# Altium footprint library PDU.PcbLib: 35 footprints (part 1 of 3)
Each footprint in its own frame and in the unit in brackets; x right, y up, seen from the top. Pads: shape width x height; smd on the part's side, far side on the other; paste and mask are expansions set on the pad; w line width, h text height; cw(c..) or ccw(c..) is an arc to the next point about the centre after c.
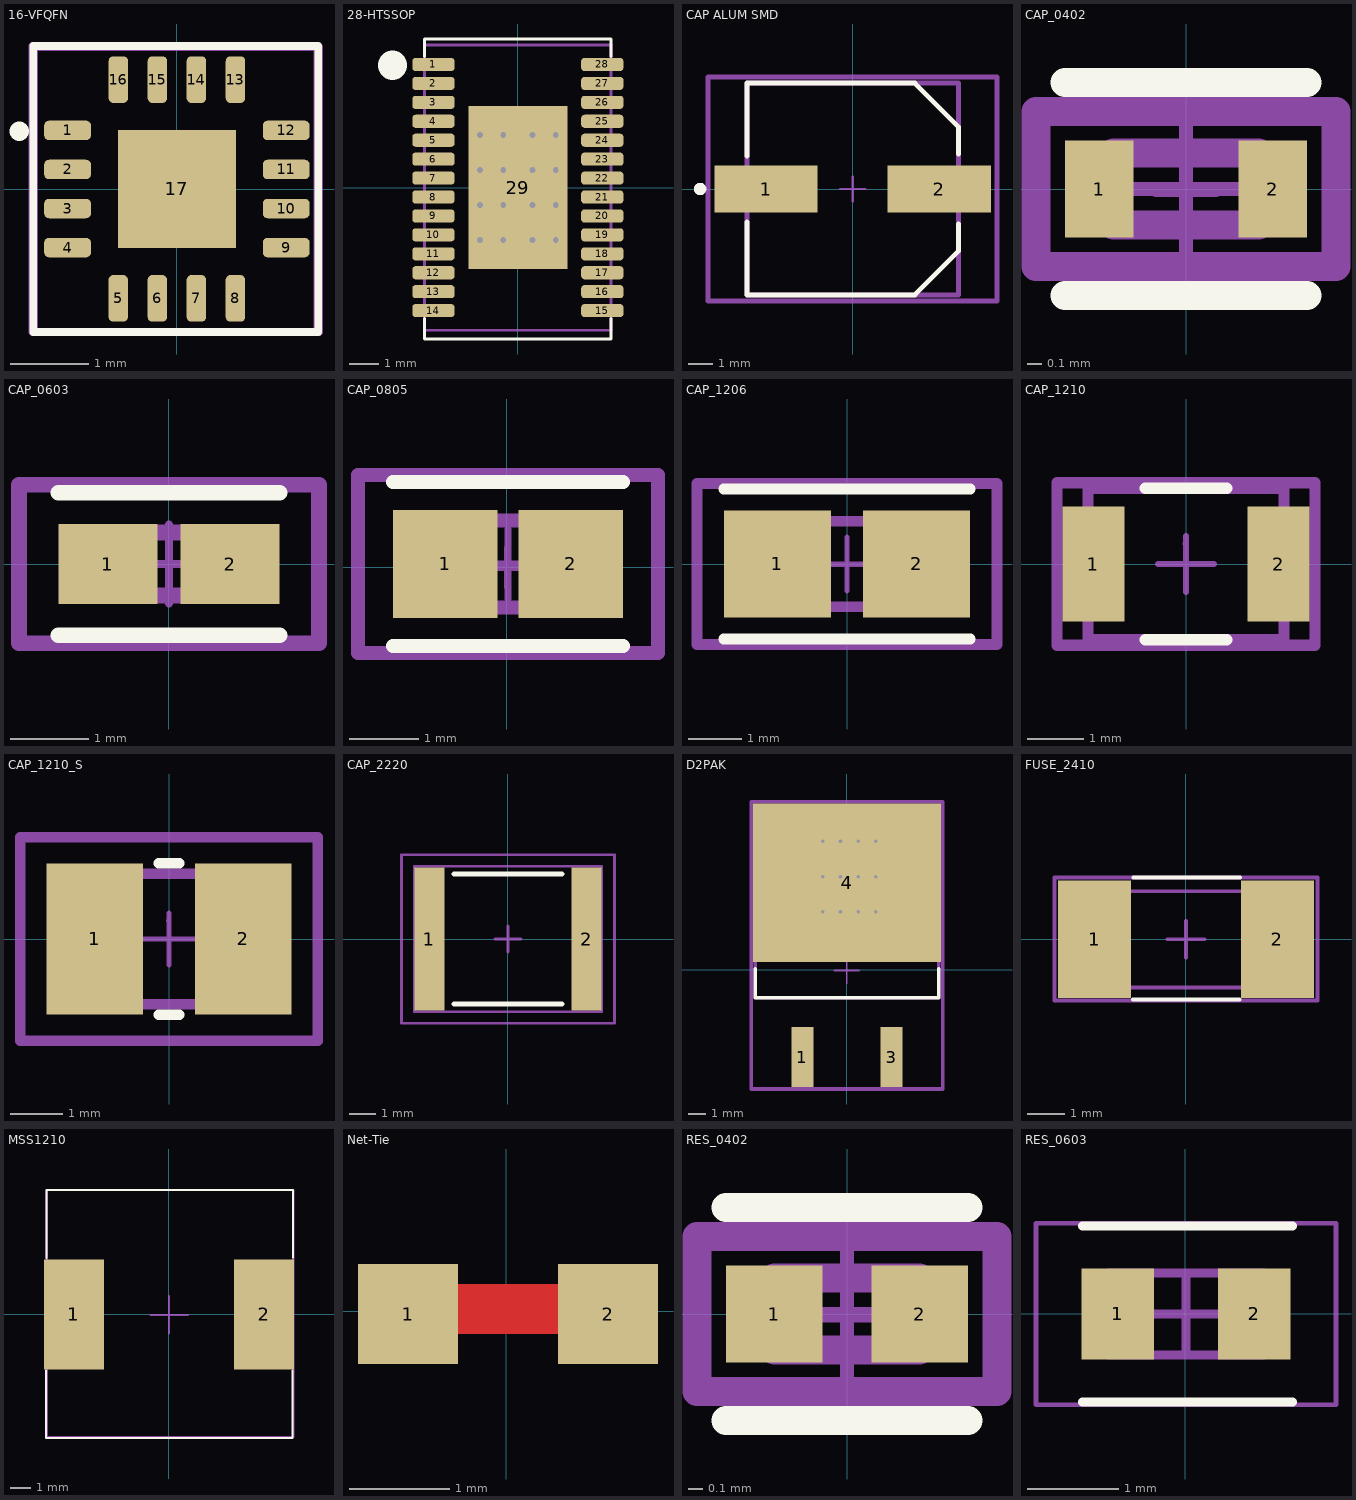
[diagram p0: the footprints below, top view; thin cyan lines are the x and y axes]

## 16-VFQFN [mm] "LM25139QRGTRQ1"
pads (17):
  rrect50% 0.6x0.25 smd paste-2539.97 mask+0.05: 1(-1.4,0.75) 2(-1.4,0.25) 3(-1.4,-0.25) 4(-1.4,-0.75) 9(1.4,-0.75) 10(1.4,-0.25) 11(1.4,0.25) 12(1.4,0.75)
  rrect50% 0.25x0.6 smd paste-2539.97 mask+0.05: 5(-0.75,-1.4) 6(-0.25,-1.4) 7(0.25,-1.4) 8(0.75,-1.4) 13(0.75,1.4) 14(0.25,1.4) 15(-0.25,1.4) 16(-0.75,1.4)
  rect 1.51x1.51 smd paste-2539.97 mask+0.05: 17(0,0)
Top Overlay:
  lines w0.1: -1.84,-1.83 1.81,-1.83 1.81,1.83 -1.84,1.83 -1.84,-1.83
  lines w0.25: -2.02,0.74 ccw(c-2.021,0.74) -2.02,0.74
Top 3D Body:
  lines w0.1: -1.83,-1.83 1.82,-1.83 1.82,1.82 -1.79,1.82 -1.83,1.82 -1.83,-1.83
Top Component Center:
  lines w0.1: -0.38,-0.01 0.38,-0.01 ; 0,-0.39 0,0.37 ; -1.85,-1.83 -1.85,1.83 -1.84,1.83 1.8,1.83 1.8,-1.83 -1.85,-1.83
Top Designator:
  text ".Designator" at -1.366,-0.688 h1.52
3D body "VQFN16.step": height 1, standoff 0, extent -1.8,-1.79 1.8,1.81

## 28-HTSSOP [mm] "LM5176PWPR -   Buck-Boost Regulator Positive Output Step-Up/Step-Down DC-DC Controller IC 28-HTSSOP"
pads (29):
  rrect50% 1.45x0.45 smd paste-2539.97 mask+0.05: 1(-2.9,4.225) 2(-2.9,3.575) 3(-2.9,2.925) 4(-2.9,2.275) 5(-2.9,1.625) 6(-2.9,0.975) 7(-2.9,0.325) 8(-2.9,-0.325) 9(-2.9,-0.975) 10(-2.9,-1.625) 11(-2.9,-2.275) 12(-2.9,-2.925) 13(-2.9,-3.575) 14(-2.9,-4.225) 15(2.9,-4.225) 16(2.9,-3.575) 17(2.9,-2.925) 18(2.9,-2.275) 19(2.9,-1.625) 20(2.9,-0.975) 21(2.9,-0.325) 22(2.9,0.325) 23(2.9,0.975) 24(2.9,1.625) 25(2.9,2.275) 26(2.9,2.925) 27(2.9,3.575) 28(2.9,4.225)
  rect 3.4x5.6 smd paste-2539.97 mask+0.05: 29(0,0)
via -1.3,1.8 diameter 0.4 hole 0.2
via -1.3,-1.8 diameter 0.4 hole 0.2
via -1.3,0.6 diameter 0.4 hole 0.2
via -1.3,-0.6 diameter 0.4 hole 0.2
via 1.3,1.8 diameter 0.4 hole 0.2
via 1.3,0.6 diameter 0.4 hole 0.2
via 1.3,-0.6 diameter 0.4 hole 0.2
via 1.3,-1.8 diameter 0.4 hole 0.2
via -0.5,-1.8 diameter 0.4 hole 0.2
via -0.5,1.8 diameter 0.4 hole 0.2
via -0.5,0.6 diameter 0.4 hole 0.2
via -0.5,-0.6 diameter 0.4 hole 0.2
via 0.5,1.8 diameter 0.4 hole 0.2
via 0.5,0.6 diameter 0.4 hole 0.2
via 0.5,-0.6 diameter 0.4 hole 0.2
via 0.5,-1.8 diameter 0.4 hole 0.2
Top Overlay:
  lines w0.1: -3.2,-4.5 -3.2,-5.2 3.2,-5.2 3.2,-4.5 ; -3.2,4.5 -3.2,5.1 3.2,5.1 3.2,4.5
  lines w1: -4.3,4.2 ccw(c-4.301,4.2) -4.3,4.2
Top 3D Body:
  lines w0.1: -3.2,-4.9 3.2,-4.9 3.2,4.9 -3.2,4.9 -3.2,-4.9
Top Component Center:
  lines w0.1: -0.3,0 0.3,0 ; 0,-0.3 0,0.3 ; -3.2,-4.9 3.2,-4.9 3.2,4.9 -3.2,4.9 -3.2,-4.9
Top Designator:
  text ".Designator" at -1.346,-0.638 h1.52
3D body "LM5176PWPR.STEP": height 1.2, standoff 0, extent -3.2,-4.85 3.2,4.85

## CAP ALUM SMD [mm] "100SXV15M - 35SVPF22M"
pads (2):
  rect 4.15x1.9 smd paste+0 mask+0: 1(-3.475,0) 2(3.475,0)
Top Overlay:
  circle w0.25: c-6.125,0 r0.125
  lines w0.2: -4.25,-1.325 -4.25,-4.25 2.5,-4.25 4.25,-2.5 4.25,-1.4 ; -4.25,1.325 -4.25,4.25 2.5,4.25 4.25,2.5 4.25,1.4
Top 3D Body:
  lines w0.2: -4.25,-4.25 4.25,-4.25 4.25,4.25 -4.25,4.25 -4.25,-4.25
Top Component Center:
  lines w0.1: -0.5,0 0.5,0 ; 0,-0.5 0,0.5
  lines w0.2: -5.8,-4.5 -5.8,4.5 5.8,4.5 5.8,-4.5 -5.8,-4.5
Top Designator:
  text ".Designator" at -0.946,-0.238 h1.52
3D body "Cap_Panasonic_20SVP100M_eec.STEP": height 0.25, standoff 0, extent -5.8,-4.5 5.8,4.5

## CAP_0402 [mm] "CGA2B3X7R1H153K050BB"
pads (2):
  rect 0.472x0.672 smd paste+0 mask+0: 1(-0.6,0) 2(0.6,0)
Top Overlay:
  lines w0.2: -0.836,-0.736 0.836,-0.736 ; -0.836,0.736 0.836,0.736
Top 3D Body:
  lines w0.2: -0.5,-0.25 -0.5,0.25 0.5,0.25 0.5,-0.25 -0.5,-0.25
Top Component Center:
  lines w0.1: -0.205,-0.005 0.205,-0.005 ; 0,-0.21 0,0.2 ; -1.036,-0.536 1.036,-0.536 1.036,0.536 -1.036,0.536 -1.036,-0.536
Top Designator:
  text ".Designator" at 0,0.188 h1
Board:
  lines w0.1: -0.5,0 0.5,0 ; 0,-0.5 0,0.5
Top Courtyard:
  lines w0.2: -1.036,-0.536 -1.036,0.536 1.036,0.536 1.036,-0.536 -1.036,-0.536
3D body "Cap_TDK_CGA2B1X7R1A154M050BC_eec.STEP": height 0.25, standoff 0, extent -1.036,-0.536 1.036,0.536

## CAP_0603 [mm] "EMK107B7105KA-T - 06033C104KAT2A - 06035A470JAT2A - CL10C331JB8NNNC - C0603C153J3GACTU - CC0603KRX7R9BB104"
pads (2):
  rect 1.258x1.012 smd paste+0 mask+0: 1(-0.777,0) 2(0.777,0)
Top Overlay:
  lines w0.2: -1.406,-0.906 1.406,-0.906 ; -1.406,0.906 1.406,0.906
Top 3D Body:
  lines w0.2: -0.8,-0.4 -0.8,0.4 0.8,0.4 0.8,-0.4 -0.8,-0.4
Top Component Center:
  lines w0.1: -1.906,-1.006 1.906,-1.006 1.906,1.006 -1.906,1.006 -1.906,-1.006
Top Designator:
  text ".Designator" at -0.14,-0.272 h1
Board:
  lines w0.1: -0.5,0 0.5,0 ; 0,-0.5 0,0.5
Top Courtyard:
  lines w0.2: -1.906,-1.006 -1.906,1.006 1.906,1.006 1.906,-1.006 -1.906,-1.006
3D body "Cap_Taiyo_Yuden_LMK107SD223KA-T_eec.STEP": height 0.25, standoff 0, extent -1.906,-1.006 1.906,1.006

## CAP_0805 [mm] "C0805C104M5RACTU - CL21C271JBANNNC - MSASU21GBB5475KTNA01"
pads (2):
  rect 1.505x1.556 smd paste+0 mask+0: 1(-0.881,0.05) 2(0.921,0.05)
Top Overlay:
  lines w0.2: -1.633,-1.128 1.673,-1.128 ; -1.633,1.228 1.673,1.228
Top 3D Body:
  lines w0.2: -0.98,-0.575 -0.98,0.675 1.02,0.675 1.02,-0.575 -0.98,-0.575
Top Component Center:
  lines w0.1: -0.28,0 0.3,0 ; 0.01,-0.29 0.01,0.29
  lines w0.2: -2.133,-1.228 2.173,-1.228 2.173,1.328 -2.133,1.328 -2.133,-1.228
Top Designator:
  text ".Designator" at 0.02,0.238 h1
Board:
  lines w0.1: -0.48,0.05 0.52,0.05 ; 0.02,-0.45 0.02,0.55
Top Courtyard:
  lines w0.2: -2.133,-1.228 -2.133,1.328 2.173,1.328 2.173,-1.228 -2.133,-1.228
3D body "Cap_KEMET_C0805C472J3HAC_eec.STEP": height 0.25, standoff 0, extent -2.133,-1.228 2.173,1.328

## CAP_1206 [mm] "C3216X7R1H106K160AC - GRM31CR71E106KA12L"
pads (2):
  rect 2.004x2.006 smd paste+0 mask+0: 1(-1.301,0) 2(1.301,0)
Top Overlay:
  lines w0.2: -2.303,-1.403 2.303,-1.403 ; -2.303,1.403 2.303,1.403
Top 3D Body:
  lines w0.2: -1.6,-0.8 -1.6,0.8 1.6,0.8 1.6,-0.8 -1.6,-0.8
Top Component Center:
  lines w0.1: -0.389,-0.005 0.391,-0.005 ; 0,-0.39 0,0.39 ; -2.803,-1.503 -2.803,1.503 2.803,1.503 2.803,-1.503 -2.803,-1.503
Top Designator:
  text ".Designator" at 0,0.188 h1
Board:
  lines w0.1: -0.5,0 0.5,0 ; 0,-0.5 0,0.5
Top Courtyard:
  lines w0.2: -2.803,-1.503 -2.803,1.503 2.803,1.503 2.803,-1.503 -2.803,-1.503
3D body "Cap_TDK_C3216X5R1A686M160AC_eec.STEP": height 0.25, standoff 0, extent -2.803,-1.503 2.803,1.503

## CAP_1210 [mm] "GRM32ER61C476KE15L"
pads (2):
  rect 1.1x2.05 smd paste+0 mask+0: 1(-1.65,0) 2(1.65,0)
Top Overlay:
  lines w0.2: -0.725,-1.35 0.725,-1.35 ; -0.725,1.35 0.725,1.35
Top 3D Body:
  lines w0.2: -1.75,-1.35 -1.75,1.35 1.75,1.35 1.75,-1.35 -1.75,-1.35
Top Component Center:
  lines w0.1: -0.36,0 0.36,0 ; -0.01,0.36 0,0.36 0,-0.36 ; -2.3,-1.45 2.3,-1.45 2.3,1.45 -2.3,1.45 -2.3,-1.45
Top Designator:
  text ".Designator" at 0,0.188 h1
Board:
  lines w0.1: -0.5,0 0.5,0 ; 0,-0.5 0,0.5
Top Courtyard:
  lines w0.2: -2.3,-1.45 -2.3,1.45 2.3,1.45 2.3,-1.45 -2.3,-1.45
3D body "Cap_Murata_GRM32EC70G107ME15K_eec.STEP": height 0.25, standoff 0, extent -2.3,-1.45 2.3,1.45

## CAP_1210_S [mm] "CL32A106KBJNNNE"
pads (2):
  rect 1.853x2.904 smd paste+0 mask+0: 1(-1.425,0) 2(1.425,0)
Top Overlay:
  lines w0.2: -0.199,-1.452 0.199,-1.452 ; -0.199,1.452 0.199,1.452
Top 3D Body:
  lines w0.2: -1.6,-1.25 1.6,-1.25 1.6,1.25 -1.6,1.25 -1.6,-1.25
Top Component Center:
  lines w0.1: -0.34,0 0.34,0 ; -0.01,0.35 0,0.35 ; 0,-0.34 0,0.34 ; -2.852,-1.952 2.852,-1.952 2.852,1.952 -2.852,1.952 -2.852,-1.952
Top Designator:
  text ".Designator" at 0,0.188 h1
Board:
  lines w0.1: -0.5,0 0.5,0 ; 0,-0.5 0,0.5
Top Courtyard:
  lines w0.2: -2.852,-1.952 2.852,-1.952 2.852,1.952 -2.852,1.952 -2.852,-1.952
3D body "Cap_Samsung_Electro-Mechanics_America_Inc_CL32C472JBFNNNE_eec.STEP": height 0.25, standoff 0, extent -2.852,-1.952 2.852,1.952

## CAP_2220 [mm] "C5750X7S2A106M230KB"
pads (2):
  rect 1.153x5.503 smd paste+0 mask+0: 1(-3.025,0) 2(3.025,0)
Top Overlay:
  lines w0.2: -2.073,-2.5 2.073,-2.5 ; -2.073,2.5 2.073,2.5
Top 3D Body:
  lines w0.1: -3.6,-2.8 3.6,-2.8 3.6,2.8 -3.6,2.8 -3.6,-2.8
Top Component Center:
  lines w0.1: -0.5,0 0.5,0 ; 0,-0.5 0,0.5 ; -4.102,-3.252 -4.102,3.252 4.102,3.252 4.102,-3.252 -4.102,-3.252
Top Designator:
  text ".Designator" at 0,0.188 h1
3D body "Cap_TDK_C5750X7R1C476M230KB_eec.STEP": height 0.25, standoff 0, extent -4.102,-3.252 4.102,3.252

## D2PAK [mil] "SQM120P06-07L"
pads (3):
  rect 49.49x135 smd paste+0 mask+0: 1(-100,-195) 3(100,-195)
  rect 420x355 smd paste+0 mask+0: 4(0,195)
via 64.17,130.31 diameter 15.75 hole 7.87
via -53.94,209.06 diameter 15.75 hole 7.87
via 24.8,209.06 diameter 15.75 hole 7.87
via -14.57,287.8 diameter 15.75 hole 7.87
via -14.57,130.31 diameter 15.75 hole 7.87
via 24.8,130.31 diameter 15.75 hole 7.87
via -53.94,130.31 diameter 15.75 hole 7.87
via 64.17,209.06 diameter 15.75 hole 7.87
via 24.8,287.8 diameter 15.75 hole 7.87
via 64.17,287.8 diameter 15.75 hole 7.87
via -53.94,287.8 diameter 15.75 hole 7.87
via -14.57,209.06 diameter 15.75 hole 7.87
Top Overlay:
  lines w7.87: -205,2.74 -205,-62.5 205,-62.5 205,2.74
Top 3D Body:
  lines w7.87: -205,-62.5 -205,317.5 205,317.5 205,-62.5 -205,-62.5
Top Component Center:
  lines w3.94: -28.16,-1.24 26.96,-1.24 ; -1.18,24.8 -0.79,24.8 -0.79,-30.32
  lines w7.87: -213.94,-266.44 -213.94,376.44 213.94,376.44 213.94,-266.44 -213.94,-266.44
Board:
  lines w3.94: -19.68,127.5 19.69,127.5 ; 0,107.81 0,147.19
Top Courtyard:
  lines w7.87: -213.94,-266.44 -213.94,376.44 213.94,376.44 213.94,-266.44 -213.94,-266.44
3D body "Trans_Vishay_SQM120P06-07L_GE3_eec.STEP": height 10, standoff 0, extent -213.94,-266.44 213.94,376.44

## FUSE_2410 [mm] "Littelfuse"
pads (2):
  rect 1.96x3.15 smd paste-2539.97 mask+0.05: 1(-2.455,0) 2(2.455,0)
Top Overlay:
  lines w0.1: -1.425,-1.62 1.445,-1.62 ; -1.41,1.66 1.46,1.66
Top 3D Body:
  lines w0.1: -3.1,-1.3 3.06,-1.3 3.06,1.29 -3.1,1.29 -3.1,-1.3
Top Component Center:
  lines w0.1: -0.495,-0.005 0.495,-0.005 ; 0,-0.5 0,0.49 ; -3.53,-1.65 3.53,-1.65 3.53,1.66 -3.46,1.66 -3.53,1.66 -3.53,-1.65
3D body "Fuse-2410.step": height 2.54, standoff 0, extent -3.09,-1.26 3.01,1.28

## MSS1210 [mm] "MSS1210-153MED"
pads (2):
  rect 3x5.5 smd paste-2539.97 mask+0.05: 1(-4.75,0) 2(4.75,0)
Top Overlay:
  lines w0.1: -6.14,-2.81 -6.14,-6.19 6.18,-6.19 6.18,-2.8 ; -6.13,2.82 -6.13,6.21 6.19,6.21 6.19,2.83
Top 3D Body:
  lines w0.1: -6.11,-6.14 6.22,-6.14 6.22,6.22 -6.11,6.22 -6.11,-6.14
Top Component Center:
  lines w0.1: -0.935,-0.025 0.955,-0.025 ; 0.01,-0.97 0.01,0.92 ; -6.13,-6.13 6.19,-6.13 6.19,6.22 -6.13,6.22 -6.13,-6.13
Top Designator:
  text ".Designator" at -0.726,-0.568 h1.52
3D body "MSS1210.STEP": height 10.1, standoff -0.1, extent -6.1,-6.11 6.2,6.19

## Net-Tie [mm]
pads (2):
  rect 1x1 smd mask+0.05: 1(-0.98,-0.03) 2(1.02,-0.03)
Top Layer:
  rectangle: -0.78,-0.23 0.82,0.27

## RES_0402 [mm] "CRCW04025K36FKED - CRCW040223K2FKED -  CRCW0402249KFKED - CRCW0603100RFKEA"
pads (2):
  rect 0.668x0.672 smd paste+0 mask+0: 1(-0.502,0) 2(0.502,0)
Top Overlay:
  lines w0.2: -0.836,-0.736 0.836,-0.736 ; -0.836,0.736 0.836,0.736
Top 3D Body:
  lines w0.2: -0.5,-0.25 0.5,-0.25 0.5,0.25 -0.5,0.25 -0.5,-0.25
Top Component Center:
  lines w0.1: -0.18,-0.01 0.18,-0.01 ; 0,-0.19 0,0.17 ; -1.036,-0.536 -1.036,0.536 1.036,0.536 1.036,-0.536 -1.036,-0.536
Top Designator:
  text ".Designator" at 0,0.188 h1
Board:
  lines w0.1: -0.5,0 0.5,0 ; 0,-0.5 0,0.5
Top Courtyard:
  lines w0.2: -1.036,-0.536 1.036,-0.536 1.036,0.536 -1.036,0.536 -1.036,-0.536
3D body "Res_Vishay_CRCW04021K00FKED_eec.STEP": height 0.25, standoff 0, extent -1.036,-0.536 1.036,0.536

## RES_0603 [mm] "RC0603FR-07576KL - RC0603FR-0720KL - RC0603FR-0793K1L -  CRCW0603100RFKEA - RC0603FR-0710KL - CRCW06032K00FKEA - RC0603FR-0710RL"
pads (2):
  rect 0.8x1 smd: 1(-0.74,0) 2(0.76,0)
Top Overlay:
  lines w0.1: -1.13,-0.97 1.18,-0.97 ; -1.13,0.97 1.18,0.97
Top 3D Body:
  lines w0.1: -0.84,-0.45 -0.84,0.45 0.86,0.45 0.86,-0.45 -0.84,-0.45
Top Component Center:
  lines w0.05: -1.64,-1 1.66,-1 1.66,1 -1.64,1 -1.64,-1
  lines w0.1: -0.44,0 0.46,0 ; 0.01,-0.45 0.01,0.45
Top Designator:
  text ".Designator" at -1.196,-0.718 h1.52
3D body: height 0.55, standoff 0, extent 0.61,-0.45 0.86,0.45
3D body: height 0.55, standoff 0, extent -0.84,-0.45 -0.59,0.45
3D body: height 0.55, standoff 0, extent -0.59,-0.45 0.61,0.45